# Altium footprint library 100uF_500V.PcbLib: 1 footprints
Each footprint in its own frame and in the unit in brackets; x right, y up, seen from the top. Pads: shape width x height; smd on the part's side, far side on the other; paste and mask are expansions set on the pad; w line width, h text height; cw(c..) or ccw(c..) is an arc to the next point about the centre after c.
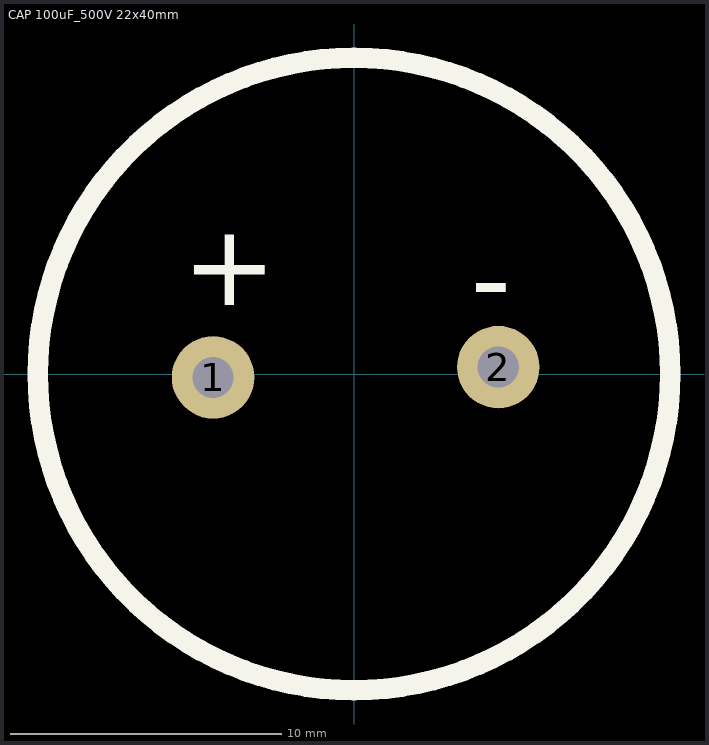
[diagram p0: the footprint, top view; thin cyan lines are the x and y axes]

## CAP 100uF_500V 22x40mm [mil]
pads (2):
  round 120 hole 60: 1(-205,-5) 2(210,10)
Top Overlay:
  circle w30: c0,0 r460
  text "-" at 170,80.02 h120
  text "+" at -250,100.01 h120
Bottom Overlay:
  circle w10: c0,0 r462.87
3D body "elh107m400aq2aa.stp": height 1300, standoff -227.17, extent -640.29,-640.29 640.29,640.29